# EAGLE library part 4-1825033-1 (library Switches)
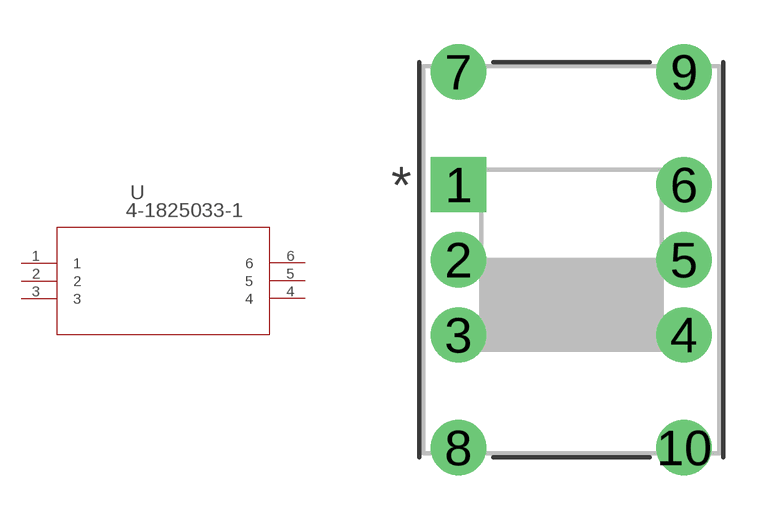
[diagram p47: symbol with the pads of SWITCH_4-1825033-1; footprint SWITCH_4-1825033-1]

Designator prefix U

## 4-1825033-1 (BUILT_BY: EMA_UL_Team; CATEGORY: Rotary Switches; DESCRIPTION: DRS1004=Rot Dip,w/Shaft; MANUFACTURER_PART_NUMBER: 4-1825033-1; PART_STATUS: active; SERIES: Alcoswitch DIP,Alcoswitch Rotary DIP DRS; VENDOR: TE Connectivity)  [SWITCH_4-1825033-1]
1  1  pas
2  2  pas
3  3  pas
4  4  pas
5  5  pas
6  6  pas

## Footprint SWITCH_4-1825033-1 (pad centres in mm)
drill 1.245 pad 1.753 square: 1 -7.62,5.08
drill 1.245 pad 1.753: 2 -7.62,2.54; 3 -7.62,0; 4 0,0; 5 0,2.54; 6 0,5.08; 7 -7.62,8.89; 8 -7.62,-3.81; 9 0,8.89; 10 0,-3.81